# Altium footprint library PcbLib1.PcbLib: 8 footprints
Each footprint in its own frame and in the unit in brackets; x right, y up, seen from the top. Pads: shape width x height; smd on the part's side, far side on the other; paste and mask are expansions set on the pad; w line width, h text height; cw(c..) or ccw(c..) is an arc to the next point about the centre after c.
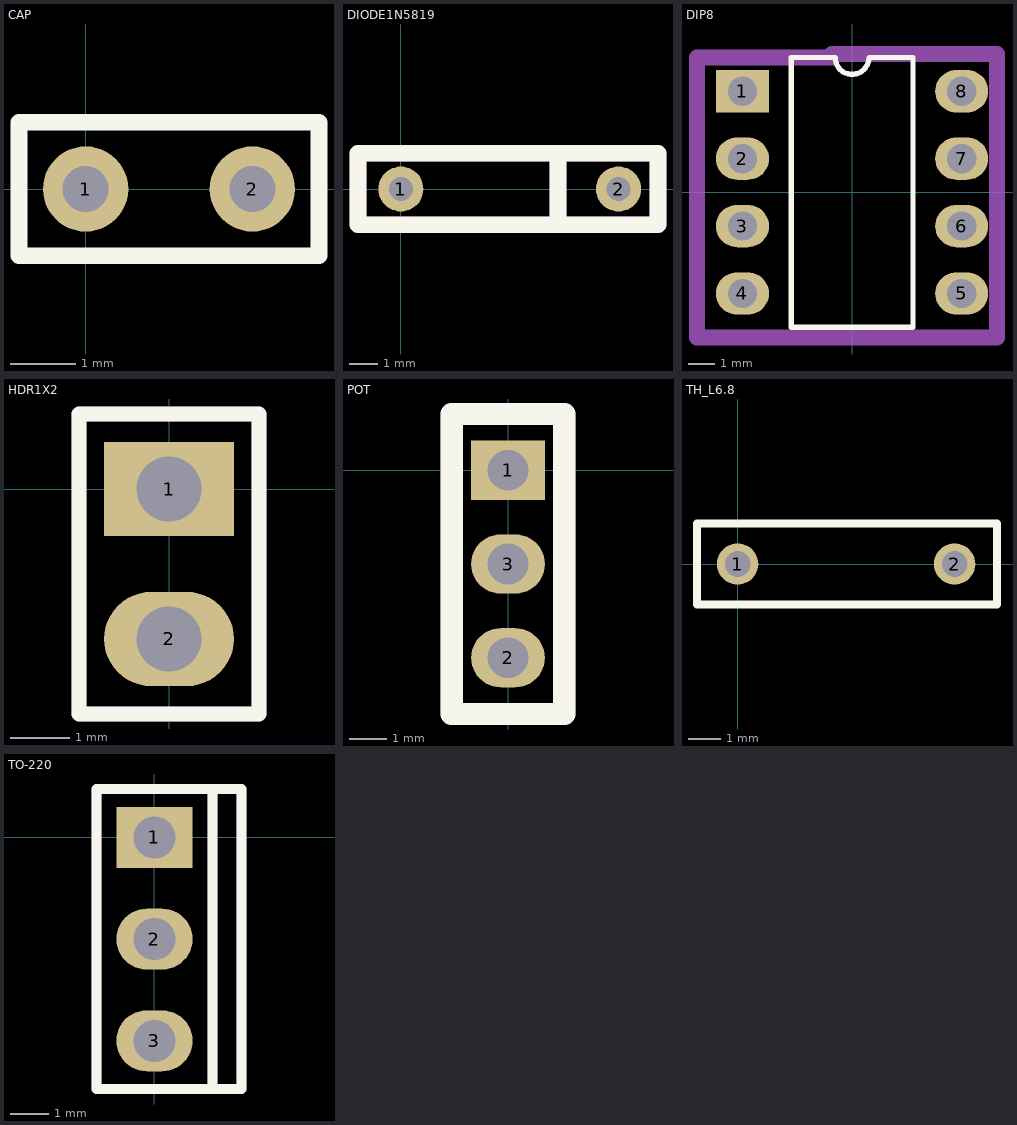
[diagram p0: the footprints below, top view; thin cyan lines are the x and y axes]

## CAP [mm]
pads (2):
  round 1.3 hole 0.7: 1(0,0) 2(2.54,0)
Top Overlay:
  lines w0.254: -1.016,0 -1.016,1.016 3.556,1.016 3.556,-1.016 -1.016,-1.016 -1.016,0.254

## DIODE1N5819 [mm]
pads (2):
  round 1.6 hole 0.86: 1(0,0) 2(7.74,0)
Top Overlay:
  lines w0.6: 5.588,-1.27 5.588,1.27 ; -1.524,-1.27 -1.524,0 -1.524,1.27 9.144,1.27 9.144,-1.27 -1.524,-1.27
Mechanical 1:
  lines w0.6: 5.588,-1.27 5.588,1.27 -1.524,1.27 ; -1.524,1.27 -1.524,-1.27 9.144,-1.27 9.144,1.27 -1.524,1.27
  text ".Designator" at 2.794,-0.508 h1.52

## DIP8 [mm]
pads (8):
  rect 2x1.6 hole 1.1: 1(-4.13,3.81)
  oval 2x1.6 hole 1.1: 2(-4.13,1.27) 3(-4.13,-1.27) 4(-4.13,-3.81) 5(4.13,-3.81) 6(4.13,-1.27) 7(4.13,1.27) 8(4.13,3.81)
Top Overlay:
  lines w0.2: -2.295,-5.08 -2.295,5.08 -0.635,5.08 ccw(c0,5.08) 0.635,5.08 2.295,5.08 2.295,-5.08 -2.295,-5.08
Mechanical 1:
  lines w0.6: -0.762,5.08 -5.461,5.08 -5.842,5.08 -5.842,-5.461 5.461,-5.461 5.461,5.207 -0.762,5.207
  text ".Designator" at 0,0.635 h1.52
3D body "DIP8.step": height 5.84, standoff -2.79, extent -3.935,-4.635 3.935,4.635

## HDR1X2 [mm]
pads (2):
  rect 2.2x1.6 hole 1.1: 1(0,0)
  oval 2.2x1.6 hole 1.1: 2(0,-2.54)
Top Overlay:
  lines w0.254: -1.524,-3.81 -1.524,1.27 0,1.27 1.524,1.27 1.524,-3.81 -1.524,-3.81
Mechanical 1:
  lines w0.254: -1.524,-3.81 -1.524,1.27 1.524,1.27 1.524,-3.81 -1.524,-3.81
  text ".Designator" at -0.762,-1.778 h1.52

## PCBComponent_1 [mm]

## POT [mm]
pads (3):
  rect 2x1.6 hole 1.1: 1(0,0)
  oval 2x1.6 hole 1.1: 2(0,-5.08) 3(0,-2.54)
Top Overlay:
  lines w0.6: -1.524,-6.604 -1.524,1.524 0,1.524 1.524,1.524 1.524,-6.604 -1.524,-6.604
Mechanical 1:
  lines w0.6: -1.524,-6.604 1.524,-6.604 1.524,1.524 -1.524,1.524 -1.524,-6.604
  text ".Designator" at 0,-3.048 h1.52

## TH_L6.8 [mm]
pads (2):
  round 1.3 hole 0.8: 1(0,0) 2(6.8,0)
Top Overlay:
  lines w0.254: -1.27,-1.27 8.128,-1.27 8.128,0 8.128,1.27 -1.27,1.27 -1.27,-1.27

## TO-220 [mm]
pads (3):
  rect 2x1.6 hole 1.1: 1(0,0)
  oval 2x1.6 hole 1.1: 2(0,-2.67) 3(0,-5.34)
Top Overlay:
  lines w0.254: 1.524,-6.604 1.524,1.27 ; -1.524,-6.604 -1.524,1.27 2.286,1.27 2.286,-6.604 -1.524,-6.604
Mechanical 1:
  lines w0.254: 1.524,-6.604 1.524,1.27 ; -1.524,-6.604 2.286,-6.604 2.286,1.27 -1.524,1.27 -1.524,-6.604
  text ".Designator" at -0.762,-3.556 h1.52